# EAGLE library part DP3T-TOGGLE (library switch-jqi)
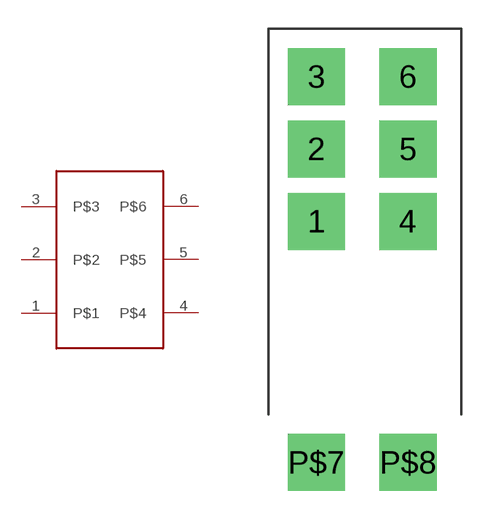
[diagram p0: symbol with the pads of 7201MD9AV2BE; footprint 7201MD9AV2BE]

Designator prefix -

## DP3T-TOGGLE  [7201MD9AV2BE]
1  P$1
2  P$2
3  P$3
4  P$4
5  P$5
6  P$6

## Footprint 7201MD9AV2BE (pad centres in mm)
drill 2 square: 1 0,0; 2 0,3.81; 3 0,7.62; 4 4.826,0; 5 4.826,3.81; 6 4.826,7.62; P$7 0,-12.7; P$8 4.826,-12.7